# Altium schematic symbol library IND,1uH,1.2A,150mOhm,Multilayer,1206.Schlib: 1 symbol
Pins are listed as number, name and electrical type; pins without a type are passive.

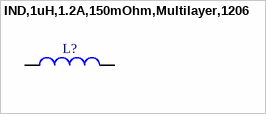
[diagram p0: symbol IND,1uH,1.2A,150mOhm,Multilayer,1206]

## IND,1uH,1.2A,150mOhm,Multilayer,1206
designator L?
pins: 1, 2